# EAGLE library part JW2SN-DC12V (library aarf)
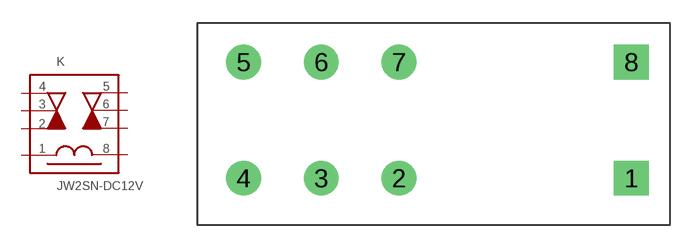
[diagram p3: symbol with the pads of DPDT-8P; footprint DPDT-8P]

Designator prefix K

## JW2SN-DC12V  [DPDT-8P]
1  P$1
2  P$2
3  P$3
4  P$4
5  P$5
6  P$6
7  P$7
8  P$8

## Footprint DPDT-8P (pad centres in mm)
drill 1.5 square: 1 0,0; 8 0,7.5
drill 1.5: 2 -15,0; 3 -20,0; 4 -25,0; 5 -25,7.5; 6 -20,7.5; 7 -15,7.5